# EAGLE library part H11L1M (library SCARA)
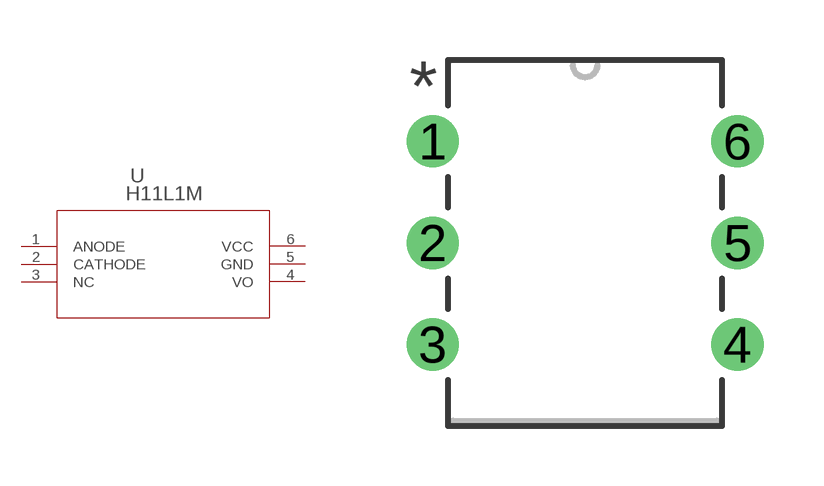
[diagram p7: symbol with the pads of PDIP6-646BX_ONS; footprint PDIP6-646BX_ONS]

Designator prefix U

## H11L1M (BUILT_BY: EMA_Justin; COPYRIGHT: Copyright (C) 2018 Accelerated Designs. All rights reserved; DATASHEET: https://www.onsemi.com/pub/Collateral/H11L3M-D.PDF; MANUFACTURER_PART_NUMBER: H11L1M; SOURCELIBRARY: ON_Semiconductor_2020-01-13; VENDOR: ON Semiconductor)  [PDIP6-646BX_ONS]
1  ANODE  pas
2  CATHODE  pas
3  NC  nc
4  VO  pas
5  GND  pas
6  VCC  pwr

## Footprint PDIP6-646BX_ONS (pad centres in mm)
drill 0.8 pad 1.27: 1 0,0; 2 0,-2.54; 3 0,-5.08; 4 7.62,-5.08; 5 7.62,-2.54; 6 7.62,0